# EAGLE library part SPI65B (library Custom)
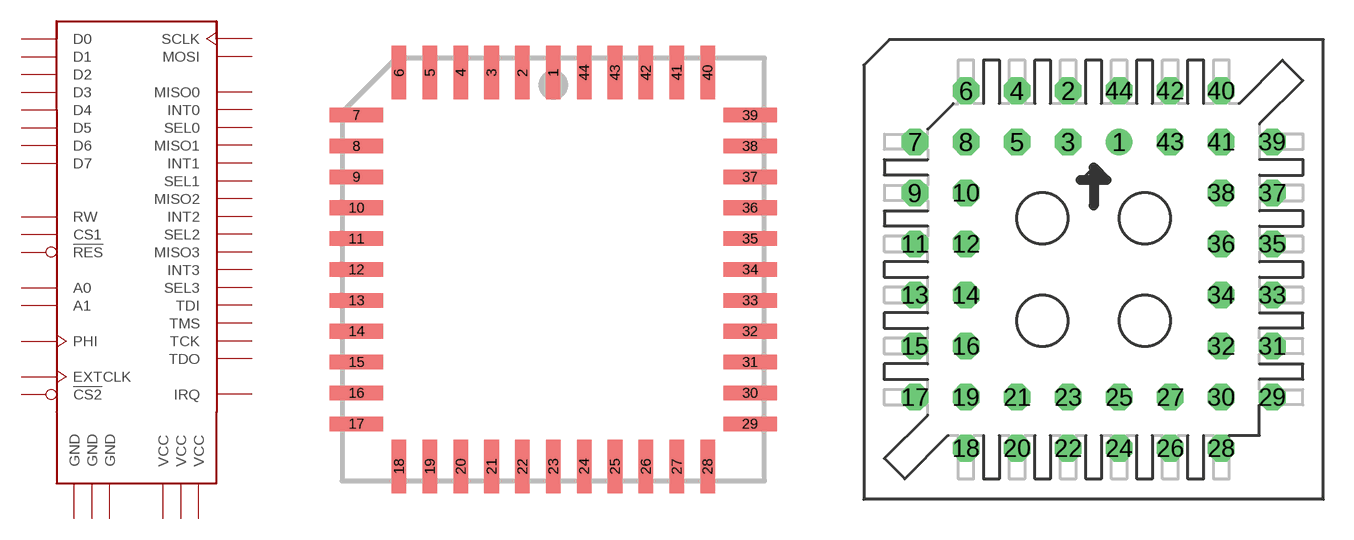
[diagram p0: symbol with the pads of PLCC44; footprints PLCC44, PLCC44_S]

Designator prefix -

## SPI65BSMD  [PLCC44]

## SPI65BSOCKET  [PLCC44_S]
1  INT3
2  D0
3  D1
4  D2
5  PHI  in
6  EXTCLK  in
7  RW
8  D3
9  D4
10  GND  oc
11  D5
12  D6
13  D7
14  IRQ  out
15  TDI
16  TMS
17  TCK
18  !CS2  in
19  !RES  in
20  CS1
21  VCC  pwr
22  A0  in
23  GND  pwr
24  A1  in
25  SEL3
26  SEL2
27  SEL1
28  SEL0
30  TDO
31  GND  pwr
32  VCC  pwr
34  SCLK  out
35  MOSI  out
37  MISO3
38  MISO2
39  INT2
40  INT1
41  VCC  pwr
42  INT0
43  MISO1
44  MISO0

## SPI65BQFP-44  [SQFP-S-10X10-44]
1  MISO3
2  INT3
3  EXTCLK  in
4  GND  oc
5  D3
7  SEL1
9  TDI
10  TMS
11  TCK
12  SEL2
13  INT2
14  SEL3
15  VCC  pwr
16  INT1
17  GND  pwr
18  INT0
19  D5
20  D0
21  D4
23  IRQ  out
24  TDO
25  GND  pwr
26  VCC  pwr
27  A0  in
28  !CS2  in
29  D2
30  D6
31  A1  in
32  D7
33  !RES  in
34  MISO0
35  VCC  pwr
36  MISO1
37  SEL0
38  D1
39  MOSI  out
40  RW
41  CS1
42  SCLK  out
43  PHI  in
44  MISO2

## Footprint PLCC44 (pad centres in mm)
smd 0.6 x 2.2: 1 0,8.1; 2 -1.27,8.1; 3 -2.54,8.1; 4 -3.81,8.1; 5 -5.08,8.1; 6 -6.35,8.1; 18 -6.35,-8.1; 19 -5.08,-8.1; 20 -3.81,-8.1; 21 -2.54,-8.1; 22 -1.27,-8.1; 23 0,-8.1; 24 1.27,-8.1; 25 2.54,-8.1; 26 3.81,-8.1; 27 5.08,-8.1; 28 6.35,-8.1; 40 6.35,8.1; 41 5.08,8.1; 42 3.81,8.1; 43 2.54,8.1; 44 1.27,8.1
smd 2.2 x 0.6: 7 -8.1,6.35; 8 -8.1,5.08; 9 -8.1,3.81; 10 -8.1,2.54; 11 -8.1,1.27; 12 -8.1,0; 13 -8.1,-1.27; 14 -8.1,-2.54; 15 -8.1,-3.81; 16 -8.1,-5.08; 17 -8.1,-6.35; 29 8.1,-6.35; 30 8.1,-5.08; 31 8.1,-3.81; 32 8.1,-2.54; 33 8.1,-1.27; 34 8.1,0; 35 8.1,1.27; 36 8.1,2.54; 37 8.1,3.81; 38 8.1,5.08; 39 8.1,6.35

## Footprint PLCC44_S (pad centres in mm)
drill 0.813: 1 1.27,5.08
drill 0.813 octagon: 2 -1.27,7.62; 3 -1.27,5.08; 4 -3.81,7.62; 5 -3.81,5.08; 6 -6.35,7.62; 7 -8.89,5.08; 8 -6.35,5.08; 9 -8.89,2.54; 10 -6.35,2.54; 11 -8.89,0; 12 -6.35,0; 13 -8.89,-2.54; 14 -6.35,-2.54; 15 -8.89,-5.08; 16 -6.35,-5.08; 17 -8.89,-7.62; 18 -6.35,-10.16; 19 -6.35,-7.62; 20 -3.81,-10.16; 21 -3.81,-7.62; 22 -1.27,-10.16; 23 -1.27,-7.62; 24 1.27,-10.16; 25 1.27,-7.62; 26 3.81,-10.16; 27 3.81,-7.62; 28 6.35,-10.16; 29 8.89,-7.62; 30 6.35,-7.62; 31 8.89,-5.08; 32 6.35,-5.08; 33 8.89,-2.54; 34 6.35,-2.54; 35 8.89,0; 36 6.35,0; 37 8.89,2.54; 38 6.35,2.54; 39 8.89,5.08; 40 6.35,7.62; 41 6.35,5.08; 42 3.81,7.62; 43 3.81,5.08; 44 1.27,7.62

## Footprint SQFP-S-10X10-44 (pad centres in mm)
QFP44 shrink quad flat pack, square
smd 0.5 x 1.8: 1 -4,-6; 2 -3.2,-6; 3 -2.4,-6; 4 -1.6,-6; 5 -0.8,-6; 6 0,-6; 7 0.8,-6; 8 1.6,-6; 9 2.4,-6; 10 3.2,-6; 11 4,-6; 23 4,6; 24 3.2,6; 25 2.4,6; 26 1.6,6; 27 0.8,6; 28 0,6; 29 -0.8,6; 30 -1.6,6; 31 -2.4,6; 32 -3.2,6; 33 -4,6
smd 1.8 x 0.5: 12 6,-4; 13 6,-3.2; 14 6,-2.4; 15 6,-1.6; 16 6,-0.8; 17 6,0; 18 6,0.8; 19 6,1.6; 20 6,2.4; 21 6,3.2; 22 6,4; 34 -6,4; 35 -6,3.2; 36 -6,2.4; 37 -6,1.6; 38 -6,0.8; 39 -6,0; 40 -6,-0.8; 41 -6,-1.6; 42 -6,-2.4; 43 -6,-3.2; 44 -6,-4